# EAGLE library part PCM1808 (library pcm1808)
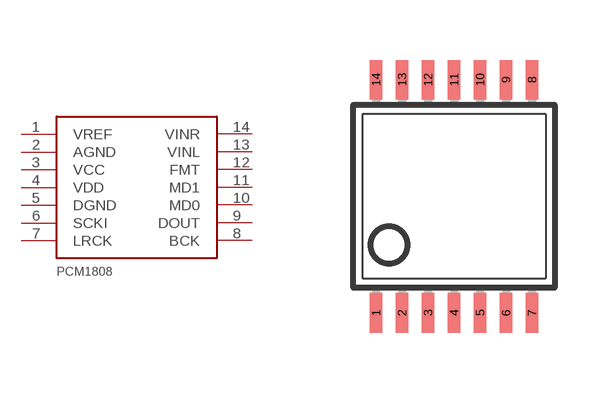
[diagram p0: symbol with the pads of TSSOP14; footprint TSSOP14]

Designator prefix -

## PCM1808  [TSSOP14]
1  VREF
2  AGND
3  VCC
4  VDD
5  DGND
6  SCKI
7  LRCK
8  BCK
9  DOUT
10  MD0
11  MD1
12  FMT
13  VINL
14  VINR

## Footprint TSSOP14 (pad centres in mm)
Thin Shrink Small Outline Plastic 14 MAX3223-MAX3243.pdf
smd 0.305 x 0.991: 1 -1.95,-2.918; 2 -1.3,-2.918; 3 -0.65,-2.918; 4 0,-2.918; 5 0.65,-2.918; 6 1.3,-2.918; 7 1.95,-2.918; 8 1.95,2.918; 9 1.3,2.918; 10 0.65,2.918; 11 0,2.918; 12 -0.65,2.918; 13 -1.3,2.918; 14 -1.95,2.918